# EAGLE library part MT8816 (library PATSKO)
8x16 Analog Switch Array Footprint compatible with: MT8116 CD22M3494MQ
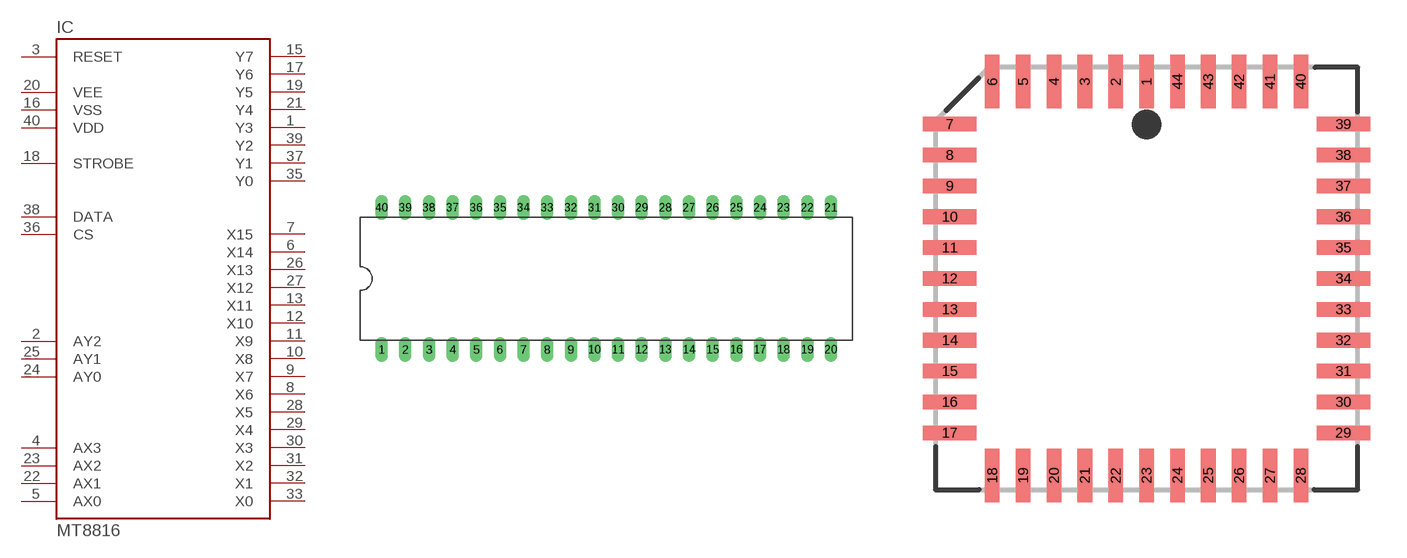
[diagram p2: symbol with the pads of DIL40; footprints DIL40, PLCC44]

Designator prefix IC

## MT8816AE  [DIL40]
1  Y3
2  AY2  in
3  RESET  in
4  AX3  in
5  AX0  in
6  X14
7  X15
8  X6
9  X7
10  X8
11  X9
12  X10
13  X11
15  Y7
16  VSS  pwr
17  Y6
18  STROBE  in
19  Y5
20  VEE  pwr
21  Y4
22  AX1  in
23  AX2  in
24  AY0  in
25  AY1  in
26  X13
27  X12
28  X5
29  X4
30  X3
31  X2
32  X1
33  X0
35  Y0
36  CS  in
37  Y1
38  DATA  in
39  Y2
40  VDD  pwr

## MT8816AP  [PLCC44]
1  Y3
2  AY2  in
3  RESET  in
4  AX3  in
5  AX0  in
7  X14
8  X15
9  X6
10  X7
11  X8
12  X9
13  X10
14  X11
17  Y7
18  VSS  pwr
19  Y6
20  STROBE  in
21  Y5
22  VEE  pwr
23  Y4
24  AX1  in
25  AX2  in
26  AY0  in
27  AY1  in
30  X13
31  X12
32  X5
33  X4
34  X3
35  X2
36  X1
37  X0
39  Y0
40  CS  in
41  Y1
42  DATA  in
43  Y2
44  VDD  pwr

## Footprint DIL40 (pad centres in mm)
Dual In Line
drill 0.813 long: 1 -24.13,-7.62; 2 -21.59,-7.62; 3 -19.05,-7.62; 4 -16.51,-7.62; 5 -13.97,-7.62; 6 -11.43,-7.62; 7 -8.89,-7.62; 8 -6.35,-7.62; 9 -3.81,-7.62; 10 -1.27,-7.62; 11 1.27,-7.62; 12 3.81,-7.62; 13 6.35,-7.62; 14 8.89,-7.62; 15 11.43,-7.62; 16 13.97,-7.62; 17 16.51,-7.62; 18 19.05,-7.62; 19 21.59,-7.62; 20 24.13,-7.62; 21 24.13,7.62; 22 21.59,7.62; 23 19.05,7.62; 24 16.51,7.62; 25 13.97,7.62; 26 11.43,7.62; 27 8.89,7.62; 28 6.35,7.62; 29 3.81,7.62; 30 1.27,7.62; 31 -1.27,7.62; 32 -3.81,7.62; 33 -6.35,7.62; 34 -8.89,7.62; 35 -11.43,7.62; 36 -13.97,7.62; 37 -16.51,7.62; 38 -19.05,7.62; 39 -21.59,7.62; 40 -24.13,7.62

## Footprint PLCC44 (pad centres in mm)
Plastic J-Lead Chip Carrier
smd 0.6 x 2.2: 1 0,8.1; 2 -1.27,8.1; 3 -2.54,8.1; 4 -3.81,8.1; 5 -5.08,8.1; 6 -6.35,8.1; 18 -6.35,-8.1; 19 -5.08,-8.1; 20 -3.81,-8.1; 21 -2.54,-8.1; 22 -1.27,-8.1; 23 0,-8.1; 24 1.27,-8.1; 25 2.54,-8.1; 26 3.81,-8.1; 27 5.08,-8.1; 28 6.35,-8.1; 40 6.35,8.1; 41 5.08,8.1; 42 3.81,8.1; 43 2.54,8.1; 44 1.27,8.1
smd 2.2 x 0.6: 7 -8.1,6.35; 8 -8.1,5.08; 9 -8.1,3.81; 10 -8.1,2.54; 11 -8.1,1.27; 12 -8.1,0; 13 -8.1,-1.27; 14 -8.1,-2.54; 15 -8.1,-3.81; 16 -8.1,-5.08; 17 -8.1,-6.35; 29 8.1,-6.35; 30 8.1,-5.08; 31 8.1,-3.81; 32 8.1,-2.54; 33 8.1,-1.27; 34 8.1,0; 35 8.1,1.27; 36 8.1,2.54; 37 8.1,3.81; 38 8.1,5.08; 39 8.1,6.35